# Altium schematic symbol library MiscG.SchLib: 24 symbols
Pins are listed as number, name and electrical type; pins without a type are passive.

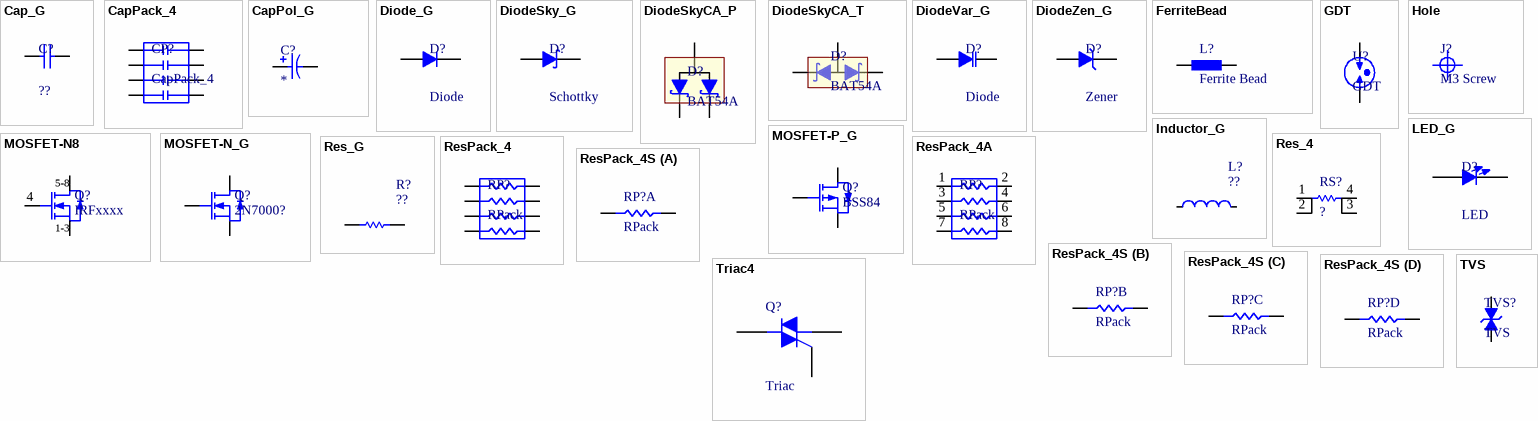
[diagram p0: symbols Cap_G to TVS]

## Cap_G
designator C?, comment ??
Capacitor; Published: 8-Jun-2000; LatestRevisionDate: 17-Jul-2002; LatestRevisionNote: Re-released for DXP Platform.; PackageReference: RAD-0.3; Publisher: Altium Limited; PackageDescription: Radial Cap, Thru-Hole; 2 Leads; 0.3 in Pin Spacing
footprint RESC1608N (Chip Resistor, Body 1.6x0.8mm, IPC Medium Density)
simulation model CAP (Capacitor)
signal-integrity model Cap
pins: 1, 2

## CapPack_4
designator CP?
pins: 1, 2, 3, 4, 5, 6, 7, 8

## CapPol_G
designator C?
Polarized Capacitor
pins: 1, 2

## Diode_G
designator D?, comment Diode
Default Diode
footprint SMC (DO-214-AB/SMC; 2 C-Bend Leads; Body 7.9 x 5.9 mm, inc. leads (LxW))
simulation model DIODE (Diode)
signal-integrity model Diode
pins: 1 A, 2 K

## DiodeSky_G
designator D?, comment Schottky
Schottky Diode
footprint SMC (DO-214-AB/SMC; 2 C-Bend Leads; Body 7.9 x 5.9 mm, inc. leads (LxW))
simulation model SKYDIODE (Diode)
signal-integrity model Diode
pins: 1 A, 2 K

## DiodeSkyCA_P
designator D?, comment BAT54A
footprint SOT23-3N (SOT23, 3-Leads, Body 2.90x2.45mm, Pitch 0.95mm, IPC Medium Density)
pins: 1 K1, 2 K2, 3 A

## DiodeSkyCA_T
designator D?, comment BAT54A
footprint SOT23-3N (SOT23, 3-Leads, Body 2.90x2.45mm, Pitch 0.95mm, IPC Medium Density)
pins: 1 K1, 2 K2, 3 A

## DiodeVar_G
designator D?, comment Diode
Default Diode
footprint SMC (DO-214-AB/SMC; 2 C-Bend Leads; Body 7.9 x 5.9 mm, inc. leads (LxW))
pins: 1 A, 2 K

## DiodeZen_G
designator D?, comment Zener
Default Diode
footprint SMC (DO-214-AB/SMC; 2 C-Bend Leads; Body 7.9 x 5.9 mm, inc. leads (LxW))
simulation model ZENER (Diode)
signal-integrity model Diode
pins: 1 A, 2 K

## FerriteBead
designator L?, comment Ferrite Bead
pins: 1, 2

## GDT
designator U?
pins: 1, 2

## Hole
designator J?, comment M3 Screw  (no BOM)
footprint M3SCREW (Footprint not found)

## Inductor_G
designator L?, comment ??
Inductor
pins: 1, 2

## LED_G
designator D?, comment LED
simulation model LED2 (Diode)
signal-integrity model Diode
footprint DIO1608N (Chip LED, Body 1.6x0.8mm, IPC Medium Density)
pins: 1 A, 2 K

## MOSFET-N8
designator Q?, comment IRFxxxx
N-Channel MOSFET; Published: 8-Jun-2000; LatestRevisionDate: 17-Jul-2002; LatestRevisionNote: Re-released for DXP Platform.; PackageVersion: 1995/1996; PackageReference: E3; Publisher: Altium Limited; PackageDescription: TO, Flat Index; 3 In-Line, Axial Leads; Body Dia. 4.6mm; Lead Dia. 0.5 mm (max)
footprint SO8 (Small Outline; 8 Leads; Body Width 3.9 mm; Pitch 1.27 mm)
simulation model NMOS (MOSFET-N)
pins: 1 S, 2 S, 3 S, 4 G, 5 D, 6 D, 7 D, 8 D
text: 5-8; 1-3

## MOSFET-N_G
designator Q?, comment 2N7000?
N-Channel MOSFET; Published: 8-Jun-2000; LatestRevisionDate: 17-Jul-2002; LatestRevisionNote: Re-released for DXP Platform.; PackageVersion: 1995/1996; PackageReference: E3; Publisher: Altium Limited; PackageDescription: TO, Flat Index; 3 In-Line, Axial Leads; Body Dia. 4.6mm; Lead Dia. 0.5 mm (max)
footprint SOT23-3N (SOT23, 3-Leads, Body 2.9x1.3mm, Pitch 0.95mm, Lead Span 2.5mm, IPC Medium Density); pin to pad D>3 G>1 S>2
simulation model NMOS (MOSFET-N)
pins: D, G, S

## MOSFET-P_G
designator Q?, comment BSS84
P-Channel MOSFET; Published: 8-Jun-2000; LatestRevisionDate: 17-Jul-2002; LatestRevisionNote: Re-released for DXP Platform.; PackageVersion: 1995/1996; PackageReference: E3; Publisher: Altium Limited; PackageDescription: TO, Flat Index; 3 In-Line, Axial Leads; Body Dia. 4.6mm; Lead Dia. 0.5 mm (max)
footprint SOT23-3N (SOT23, 3-Leads, Body 2.9x1.3mm, Pitch 0.95mm, Lead Span 2.5mm, IPC Medium Density); pin to pad D>3 G>1 S>2
simulation model PMOS (MOSFET-P)
pins: D, G, S

## Res_4
designator RS?, comment ?
pins: 1, 2, 3, 4

## Res_G
designator R?, comment ??
Resistor
footprint RESC1608N (Chip Resistor, Body 1.6x0.8mm, IPC Medium Density)
simulation model RESISTOR (Resistor)
signal-integrity model Res
footprint RESC2012N (Chip Resistor, Body 2.0x1.3mm, IPC Medium Density)
pins: 1, 2

## ResPack_4
designator RP?, comment RPack
footprint CRA06S
pins: 1, 2, 3, 4, 5, 6, 7, 8

## ResPack_4A
designator RP?, comment RPack
footprint SIP8 (Single in-line package)
pins: 1, 2, 3, 4, 5, 6, 7, 8

## ResPack_4S
designator RP?, comment RPack
footprint CRA06S
part A pins: 1, 8
part B pins: 2, 7
part C pins: 3, 6
part D pins: 4, 5

## Triac4
designator Q?, comment Triac
Silicon Bidirectional Triode Thyristor; Note: Pin 2 is electrically connected to Pin 4 (TAB); Published: 29-Sep-2000; LatestRevisionDate: 17-Jul-2002; LatestRevisionNote: Re-released for DXP Platform.; DatasheetVersion: 1999; PackageReference: 369-03; Publisher: Altium Limited; PackageDescription: TO, Thru-Hole, Vertical, Heatsink Mounted; 3 In-Line Leads; Pitch 2.28 mm; ComponentLink1Description: Manufacturer Link; ComponentLink1URL: http://www.motorola.com/
footprint SOT223-4N (SOT223/SC73, 4-Leads, Body 6.5x3.5mm, Pitch 2.3mm, Lead Span 7mm, IPC Medium Density)
simulation model MAC15A8 (Spice Subcircuit)
pins: 1 M1, 2 M2, 3 G, 4 M2

## TVS
designator TVS?
footprint DO-214AC (Surface mount diode, "SMA")
footprint SMB (DO-214-AA/SMB; 2 C-Bend Leads; Body 5.3 x 3.6 mm, inc. leads (LxW))
footprint SMC (DO-214-AB/SMC; 2 C-Bend Leads; Body 7.9 x 5.9 mm, inc. leads (LxW))
pins: 1, 2